# Altium footprint library PCBLibPutallaz.PcbLib: 49 footprints (part 2 of 4)
Each footprint in its own frame and in the unit in brackets; x right, y up, seen from the top. Pads: shape width x height; smd on the part's side, far side on the other; paste and mask are expansions set on the pad; w line width, h text height; cw(c..) or ccw(c..) is an arc to the next point about the centre after c.
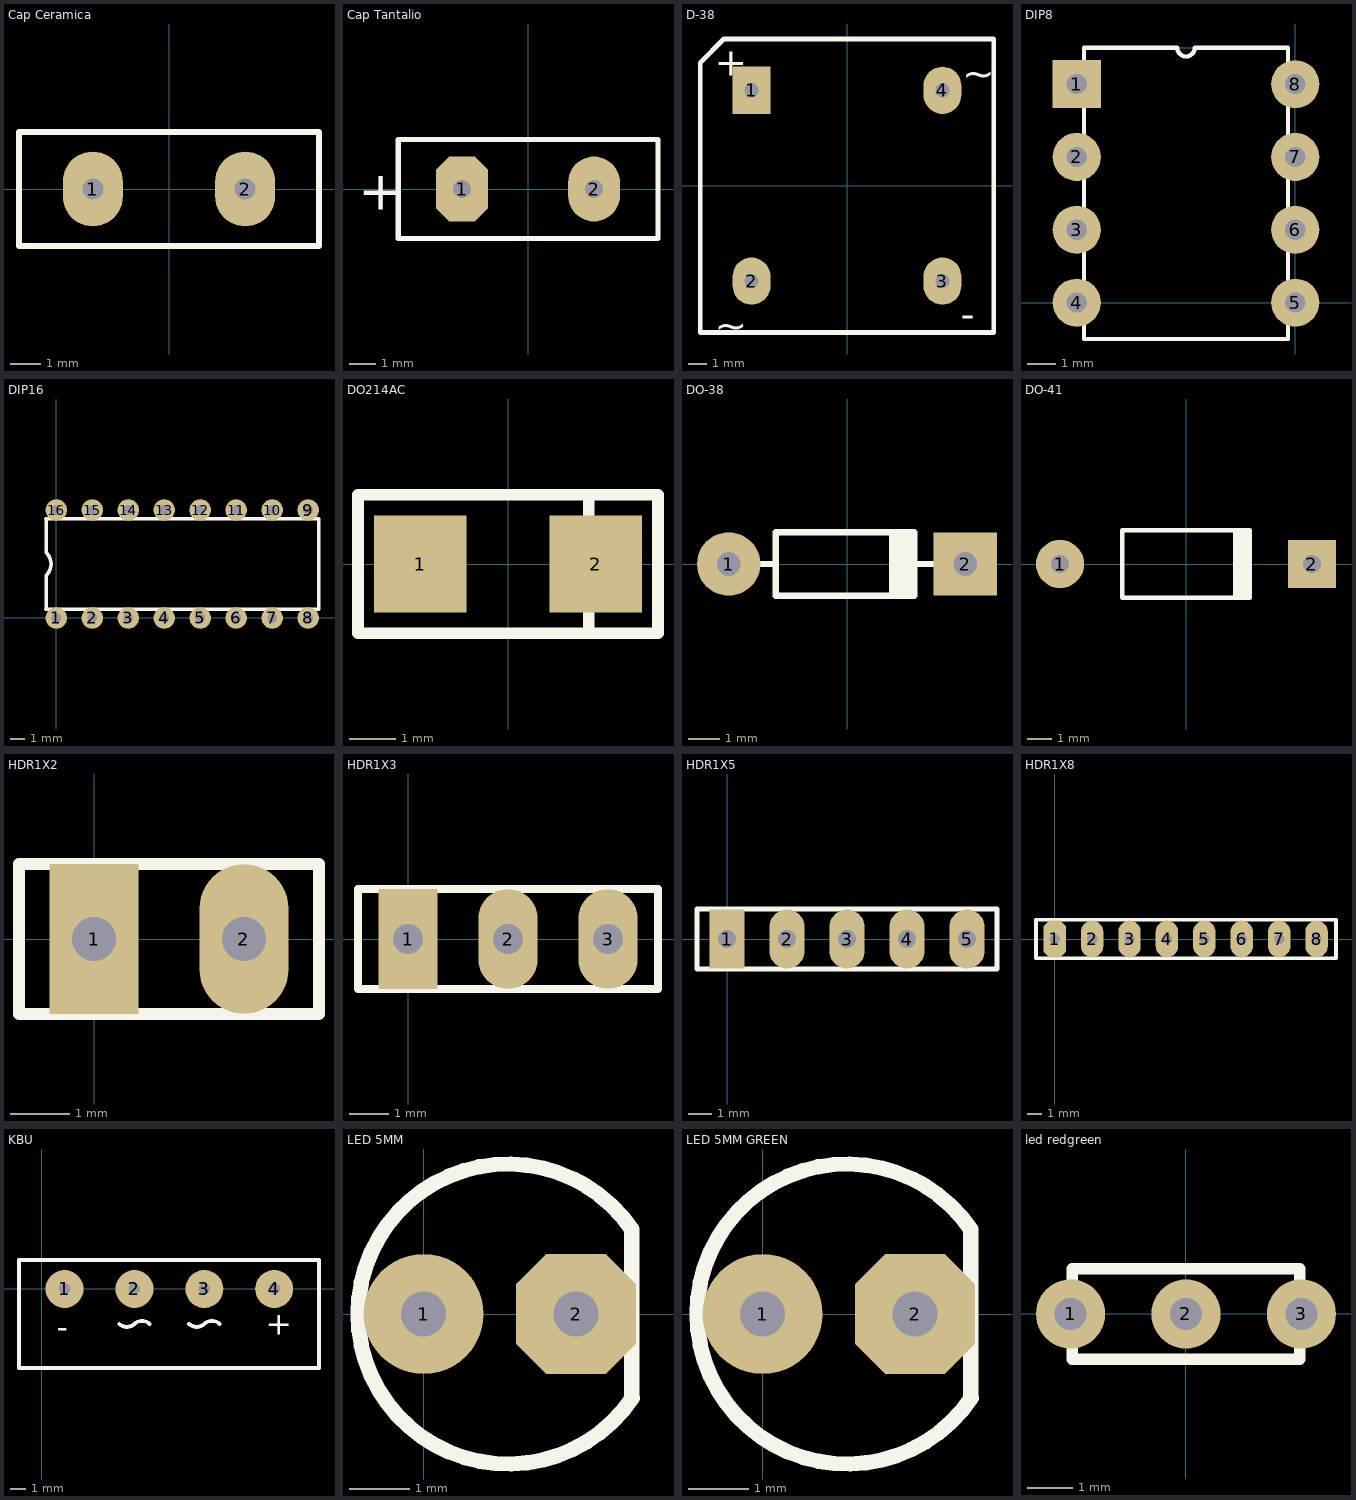
[diagram p1: the footprints below, top view; thin cyan lines are the x and y axes]

## Cap Ceramica [mm] "Radial Cap, Thru-Hole; 2 Leads; 0.2 in Pin Spacing"
pads (2):
  oval 2x2.5 hole 0.7: 1(-2.54,0) 2(2.54,0)
Top Overlay:
  lines w0.2: 5,1.9 -5,1.905 -5,-1.905 5,-1.905 5,1.905

## Cap Tantalio [mm] "Radial Cap, Thru-Hole; 2 Leads; 0.2 in Pin Spacing"
pads (2):
  oct 2x2.5 hole 0.7: 1(-2.54,0)
  oval 2x2.5 hole 0.7: 2(2.54,0)
Top Overlay:
  lines w0.2: 5,1.9 -5,1.905 -5,-1.905 5,-1.905 5,1.905
  text "+" at -6.546,-0.8 h1.52
3D body: height 0.25, standoff 0, extent -5,-2 5,2

## D-38 [mm] "Bridge Rectifier; 4 Terminals; Body 9.4 x 9.4 mm (typ); Pitch 5.08 mm"
height 9.91
pads (4):
  rect 2x2.5 hole 0.75: 1(-5.04,5.04)
  oval 2x2.5 hole 0.75: 2(-5.04,-5.04) 3(5.04,-5.04) 4(5.04,5.04)
Top Overlay:
  lines w0.254: -7.75,-7.75 7.75,-7.75 7.75,7.75 -6.5,7.75 -7.75,6.5 -7.75,-7.75
  text "+" at -7,5.8 h1.5
  text "-" at 6,-7.5 h1.5
  text "~" at 6.1,5.2 h1.5
  text "~" at -7,-8.1 h1.5

## DIP8 [mil]
pads (8):
  rect 66x66 hole 27.56: 1(-300,300)
  round 66 hole 27.56: 2(-300,200) 3(-300,100) 4(-300,0) 5(0,0) 6(0,100) 7(0,200) 8(0,300)
Top Overlay:
  lines w6: -290,-50 -290,350 -162,350 ccw(c-150,350) -138,350 -10,350 -10,-50 -290,-50
Mechanical 13:
  lines w0: -162,350 ccw(c-150,350) -138,350 ; -162,350 -290,350 -290,-50 -10,-50 -10,350 -138,350 ; -162,350 -138,350 ; -322,-22 -290,-22 -290,22 -322,22 -322,-22 ; -322,78 -290,78 -290,122 -322,122 -322,78 ; -322,178 -290,178 -290,222 -322,222 -322,178 ; -322,278 -290,278 -290,322 -322,322 -322,278 ; -10,-22 22,-22 22,22 -10,22 -10,-22 ; -10,78 22,78 22,122 -10,122 -10,78 ; -10,178 22,178 22,222 -10,222 -10,178 ; -10,278 22,278 22,322 -10,322 -10,278
3D body "CA3140EZ.STEP": height 210, standoff -150, extent -305.5,-38.75 5.5,338.75

## DIP16 [mil]
pads (16):
  round 60 hole 27.56: 1(0,0) 2(100,0) 3(200,0) 4(300,0) 5(400,0) 6(500,0) 7(600,0) 8(700,0) 9(700,300) 10(600,300) 11(500,300) 12(400,300) 13(300,300) 14(200,300) 15(100,300) 16(0,300)
Top Overlay:
  lines w10: -28.94,24.02 728.94,24.02 728.94,275.98 -28.94,275.98 ; -27.56,25.39 -27.56,118.5 ccw(c-59.06,150) -27.56,181.5 -27.56,274.61

## DO214AC [mm]
pads (2):
  rect 2x2.1 smd: 1(-1.9,0) 2(1.9,0)
Top Overlay:
  lines w0.254: 1.75,-1.5 1.75,1.5 ; -3.25,-1.5 3.25,-1.5 3.25,1.5 -3.25,1.5 -3.25,-1.5
3D body "1N4007W--3DModel-STEP-269445.STEP": height 1.3, standoff 0, extent -1.9,-0.9 1.9,0.9

## DO-38 [mm] "Diode, Axial; Body 5.2 x 2.7 mm (LxDia. max), Lead Dia. 0.86 mm (max)"
height 2.8
pads (2):
  round 2 hole 0.75: 1(-3.73,0)
  rect 2x2 hole 0.75: 2(3.73,0)
Top Overlay:
  rectangle: 1.324,-1 2.124,1
  lines w0.2: -3,0 -2.25,0 ; 2.124,0 2.75,0 ; -2.25,-1 -2.25,1 2.124,1 2.124,-1 -2.25,-1
3D body "1N4148.STEP": height 1.91, standoff -22.92, extent -3.73,-0.955 4.277,0.955

## DO-41 [mm] "Diode, Axial; Body 5.2 x 2.7 mm (LxDia. max), Lead Dia. 0.86 mm (max)"
height 2.8
pads (2):
  round 2 hole 0.75: 1(-5.23,0)
  rect 2x2 hole 0.75: 2(5.23,0)
Top Overlay:
  rectangle: 1.95,-1.4 2.75,1.4
  lines w0.2: 2.65,-1.4 -2.65,-1.4 -2.65,1.4 2.65,1.4

## HDR1X2 [mm] "Connector; Header; 2 Position"
pads (2):
  rect 1.5x2.54 hole 0.75: 1(0,0)
  oval 1.5x2.54 hole 0.75: 2(2.54,0)
Top Overlay:
  lines w0.2: -1.27,-1.27 -1.27,1.27 3.81,1.27 3.81,-1.27 -1.27,-1.27
3D body "MTLW-101-08-G-D-410.stp": height 11.94, standoff -1.52, extent -1.279,-1.27 3.75,1.27

## HDR1X3 [mm] "Connector; Header; 3 Position"
pads (3):
  rect 1.5x2.54 hole 0.75: 1(0,0)
  oval 1.5x2.54 hole 0.75: 2(2.54,0) 3(5.08,0)
Top Overlay:
  lines w0.2: -1.27,-1.27 -1.27,1.27 6.35,1.27 6.35,-1.27 -1.27,-1.27
3D body "TSW-101-07-T-T.stp": height 8.38, standoff -2.54, extent -1.27,-1.27 6.35,1.27

## HDR1X5 [mm] "Connector; Header; 5 Position"
pads (5):
  rect 1.5x2.5 hole 0.75: 1(0,0)
  oval 1.5x2.5 hole 0.75: 2(2.54,0) 3(5.08,0) 4(7.62,0) 5(10.16,0)
Top Overlay:
  lines w0.2: -1.27,-1.27 11.43,-1.27 11.43,1.27 -1.27,1.27 -1.27,-1.27

## HDR1X8 [mm]
pads (8):
  oct 1.524x2.5 hole 0.7: 1(0,0)
  oval 1.524x2.5 hole 0.7: 2(2.54,0) 3(5.08,0) 4(7.62,0) 5(10.16,0) 6(12.7,0) 7(15.24,0) 8(17.78,0)
Top Overlay:
  lines w0.254: -1.27,-1.3 -1.27,1.3 19.1,1.3 19.1,-1.3 -1.27,-1.3

## KBU [mm]
pads (4):
  round 2.5 hole 0.762: 1(1.5,0) 2(6.1,0) 3(10.7,0) 4(15.3,0)
Top Overlay:
  lines w0.254: 5.1,-2.3 ccw(c5.6,-1.775) 6.1,-2.3 cw(c6.6,-2.825) 7.1,-2.3 ; 9.7,-2.3 ccw(c10.2,-1.775) 10.7,-2.3 cw(c11.2,-2.825) 11.7,-2.3 ; -1.5,-5.2 -1.5,1.9 18.25,1.9 18.25,-5.2 -1.5,-5.2
  text "-" at 1,-3.25 h1.52
  text "+" at 14.75,-3 h1.52
3D body "KBU6M.STEP": height 12.7, standoff -14.2, extent 1.15,-2.5 15.85,1.3

## LED 5MM [mm] "LED; 2 Leads"
pads (2):
  round 2 hole 0.75: 1(0,0)
  oct 2x2 hole 0.75: 2(2.54,0)
Top Overlay:
  lines w0.254: 3.469,-1.383 3.469,1.411 ccw(c1.405,0) -1.095,0 ccw(c1.405,0) 3.476,-1.4
3D body "WP7113ID--3DModel-STEP-510211.STEP": height 9.6, standoff -26, extent -1.717,-3 3.717,2.9

## LED 5MM GREEN [mm] "LED; 2 Leads"
pads (2):
  round 2 hole 0.75: 1(0,0)
  oct 2x2 hole 0.75: 2(2.54,0)
Top Overlay:
  lines w0.254: 3.469,-1.383 3.469,1.411 ccw(c1.405,0) -1.095,0 ccw(c1.405,0) 3.476,-1.4
3D body "L-53GD--3DModel-STEP-510211.STEP": height 9.6, standoff -26, extent -1.725,-2.9 3.725,3

## led redgreen [mil]
pads (3):
  round 60 hole 27.56: 1(-100,0) 2(0,0) 3(100,0)
Top Overlay:
  lines w10: -98.43,-39.37 98.43,-39.37 98.43,39.37 -98.43,39.37 -98.43,-39.37